# EAGLE library part MCP8266-MODULE (library GPIOexpander)
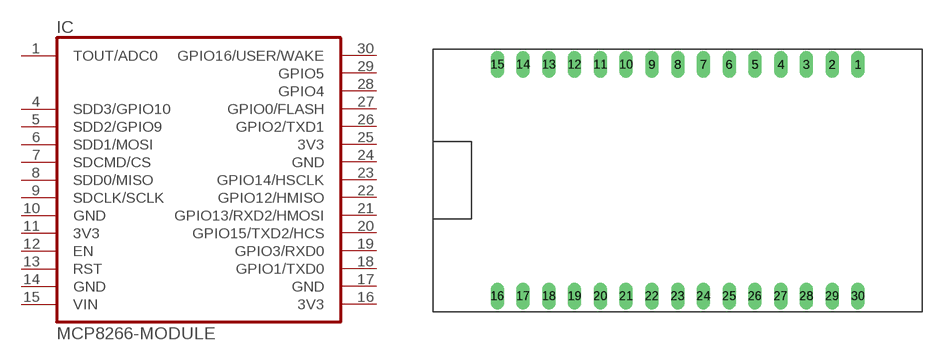
[diagram p2: symbol with the pads of MCP8266-MODULE; footprint MCP8266-MODULE]

Designator prefix IC

## MCP8266-MODULE  [MCP8266-MODULE]
1  TOUT/ADC0
4  SDD3/GPIO10
5  SDD2/GPIO9
6  SDD1/MOSI
7  SDCMD/CS
8  SDD0/MISO
9  SDCLK/SCLK
10  GND
11  3V3
12  EN
13  RST
14  GND
15  VIN
16  3V3
17  GND
18  GPIO1/TXD0
19  GPIO3/RXD0
20  GPIO15/TXD2/HCS
21  GPIO13/RXD2/HMOSI
22  GPIO12/HMISO
23  GPIO14/HSCLK
24  GND
25  3V3
26  GPIO2/TXD1
27  GPIO0/FLASH
28  GPIO4
29  GPIO5
30  GPIO16/USER/WAKE

## Footprint MCP8266-MODULE (pad centres in mm)
Dual In Line Package
drill 0.813 long: 1 41.91,24.13; 2 39.37,24.13; 3 36.83,24.13; 4 34.29,24.13; 5 31.75,24.13; 6 29.21,24.13; 7 26.67,24.13; 8 24.13,24.13; 9 21.59,24.13; 10 19.05,24.13; 11 16.51,24.13; 12 13.97,24.13; 13 11.43,24.13; 14 8.89,24.13; 15 6.35,24.13; 16 6.35,1.27; 17 8.89,1.27; 18 11.43,1.27; 19 13.97,1.27; 20 16.51,1.27; 21 19.05,1.27; 22 21.59,1.27; 23 24.13,1.27; 24 26.67,1.27; 25 29.21,1.27; 26 31.75,1.27; 27 34.29,1.27; 28 36.83,1.27; 29 39.37,1.27; 30 41.91,1.27